# Altium schematic symbol library RectangularModule.SchLib: 1 symbol
Pins are listed as number, name and electrical type; pins without a type are passive.

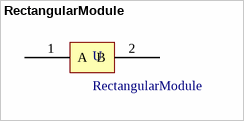
[diagram p0: symbol RectangularModule]

## RectangularModule
designator U
footprint RectangularModule
pins: 1 A (power), 2 B (power)